# Altium integrated library heatsink.IntLib: 34 symbols
Pins are listed as number, name and electrical type; pins without a type are passive.

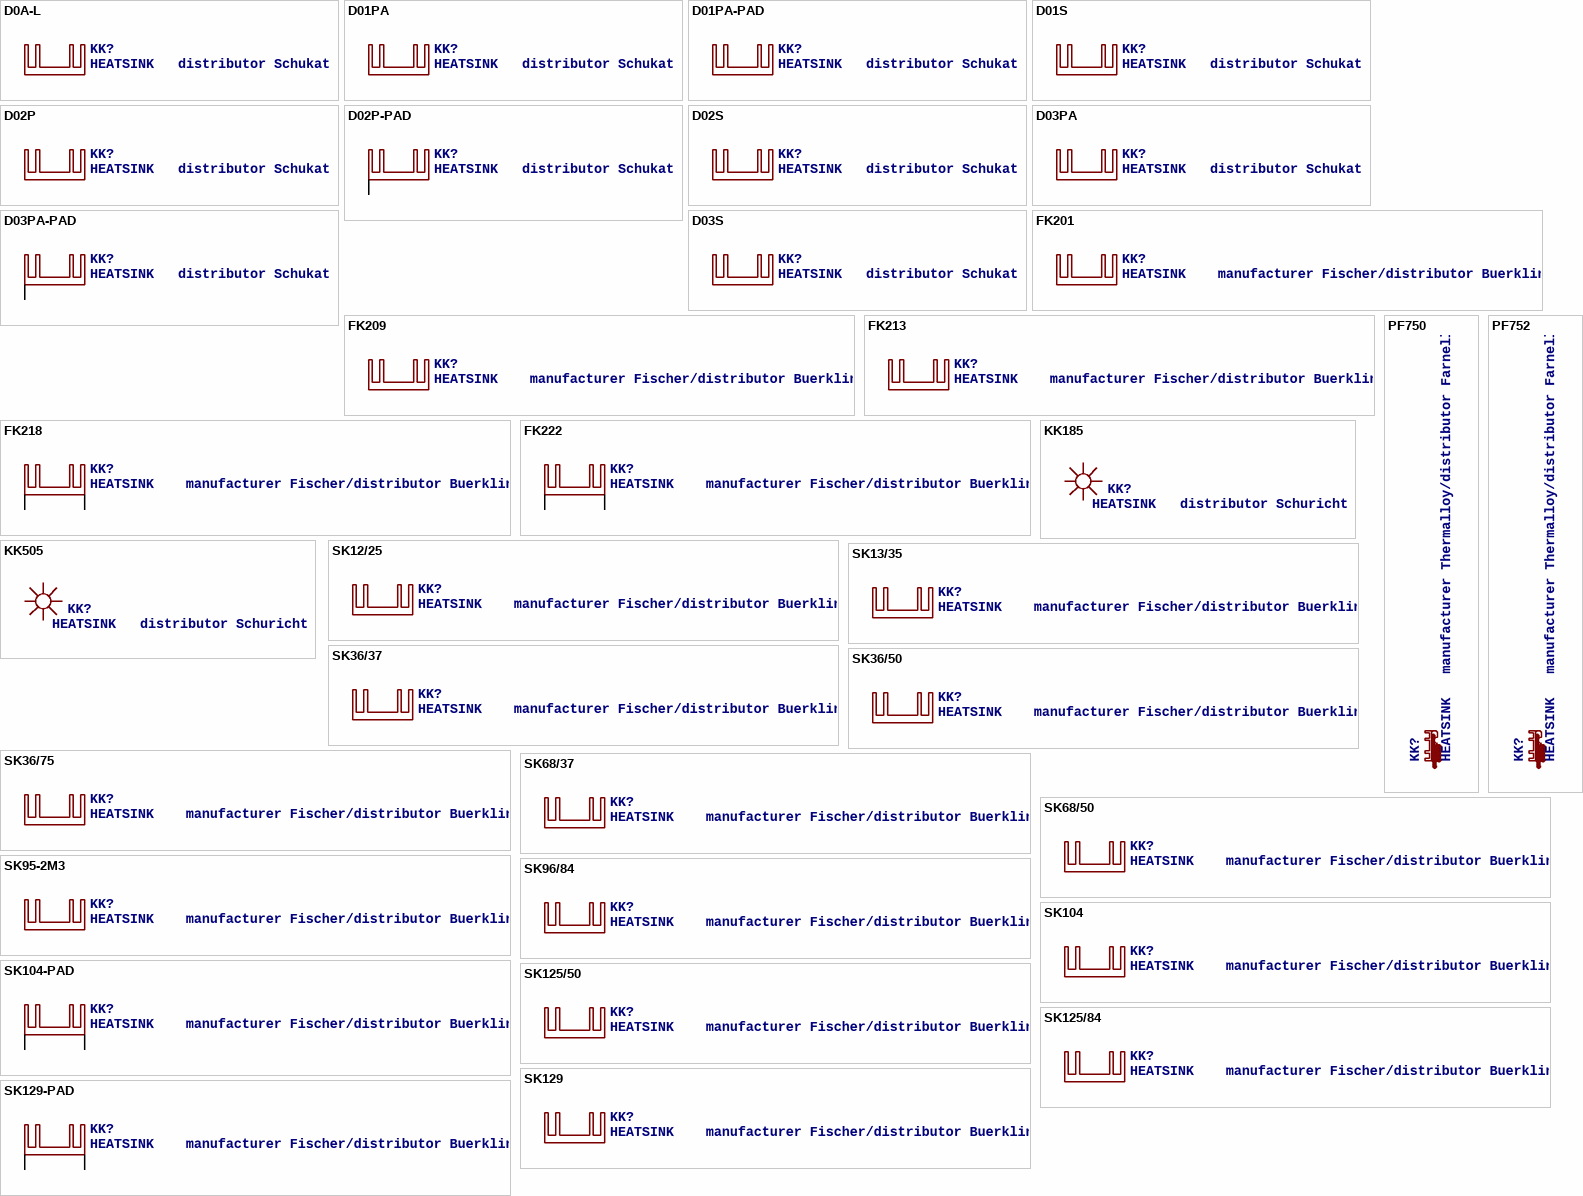
[diagram p0: symbols D0A-L to SK129-PAD]

## D0A-L
designator KK?, comment HEATSINK   distributor Schukat
footprint D02A-L

## D01PA
designator KK?, comment HEATSINK   distributor Schukat
footprint D01PA

## D01PA-PAD
designator KK?, comment HEATSINK   distributor Schukat
footprint D01PA-PAD

## D01S
designator KK?, comment HEATSINK   distributor Schukat
footprint D01S

## D02P
designator KK?, comment HEATSINK   distributor Schukat
footprint D02PA

## D02P-PAD
designator KK?, comment HEATSINK   distributor Schukat
footprint D02PA-PAD
pins: B K@1

## D02S
designator KK?, comment HEATSINK   distributor Schukat
footprint D02S

## D03PA
designator KK?, comment HEATSINK   distributor Schukat
footprint D03PA

## D03PA-PAD
designator KK?, comment HEATSINK   distributor Schukat
footprint D03PA-PAD
pins: B K@1

## D03S
designator KK?, comment HEATSINK   distributor Schukat
footprint D03S

## FK201
designator KK?, comment HEATSINK    manufacturer Fischer/distributor Buerklin
footprint FK201

## FK209
designator KK?, comment HEATSINK    manufacturer Fischer/distributor Buerklin
footprint FK209

## FK213
designator KK?, comment HEATSINK    manufacturer Fischer/distributor Buerklin
footprint FK213

## FK218
designator KK?, comment HEATSINK    manufacturer Fischer/distributor Buerklin
footprint FK218
pins: A2,2 K@1, B2,2 K@2

## FK222
designator KK?, comment HEATSINK    manufacturer Fischer/distributor Buerklin
footprint FK222
pins: A2,8 K@1, B2,8 K@2

## KK185
designator KK?, comment HEATSINK   distributor Schuricht
footprint KK185

## KK505
designator KK?, comment HEATSINK   distributor Schuricht
footprint KK505

## PF750
designator KK?, comment HEATSINK   manufacturer Thermalloy/distributor Farnell
footprint PF752

## PF752
designator KK?, comment HEATSINK   manufacturer Thermalloy/distributor Farnell
footprint PF752

## SK12/25
designator KK?, comment HEATSINK    manufacturer Fischer/distributor Buerklin
footprint SK12/25

## SK13/35
designator KK?, comment HEATSINK    manufacturer Fischer/distributor Buerklin
footprint SK13/35

## SK36/37
designator KK?, comment HEATSINK    manufacturer Fischer/distributor Buerklin
footprint SK36/37

## SK36/50
designator KK?, comment HEATSINK    manufacturer Fischer/distributor Buerklin
footprint SK36/50

## SK36/75
designator KK?, comment HEATSINK    manufacturer Fischer/distributor Buerklin
footprint SK36/75

## SK68/37
designator KK?, comment HEATSINK    manufacturer Fischer/distributor Buerklin
footprint SK68/37

## SK68/50
designator KK?, comment HEATSINK    manufacturer Fischer/distributor Buerklin
footprint SK68/50

## SK95-2M3
designator KK?, comment HEATSINK    manufacturer Fischer/distributor Buerklin
footprint SK95-2M3

## SK96/84
designator KK?, comment HEATSINK    manufacturer Fischer/distributor Buerklin
footprint SK96/84

## SK104
designator KK?, comment HEATSINK    manufacturer Fischer/distributor Buerklin
footprint SK104

## SK104-PAD
designator KK?, comment HEATSINK    manufacturer Fischer/distributor Buerklin
footprint SK104-PAD
pins: K1 K@1, K2 K@2

## SK125/50
designator KK?, comment HEATSINK    manufacturer Fischer/distributor Buerklin
footprint SK125/50

## SK125/84
designator KK?, comment HEATSINK    manufacturer Fischer/distributor Buerklin
footprint SK125/84

## SK129
designator KK?, comment HEATSINK    manufacturer Fischer/distributor Buerklin
footprint SK129-HOLE

## SK129-PAD
designator KK?, comment HEATSINK    manufacturer Fischer/distributor Buerklin
footprint SK129
pins: A2,5 K@1, B2,5 K@2